# Altium footprint library RF.PcbLib: 3 footprints
Each footprint in its own frame and in the unit in brackets; x right, y up, seen from the top. Pads: shape width x height; smd on the part's side, far side on the other; paste and mask are expansions set on the pad; w line width, h text height; cw(c..) or ccw(c..) is an arc to the next point about the centre after c.
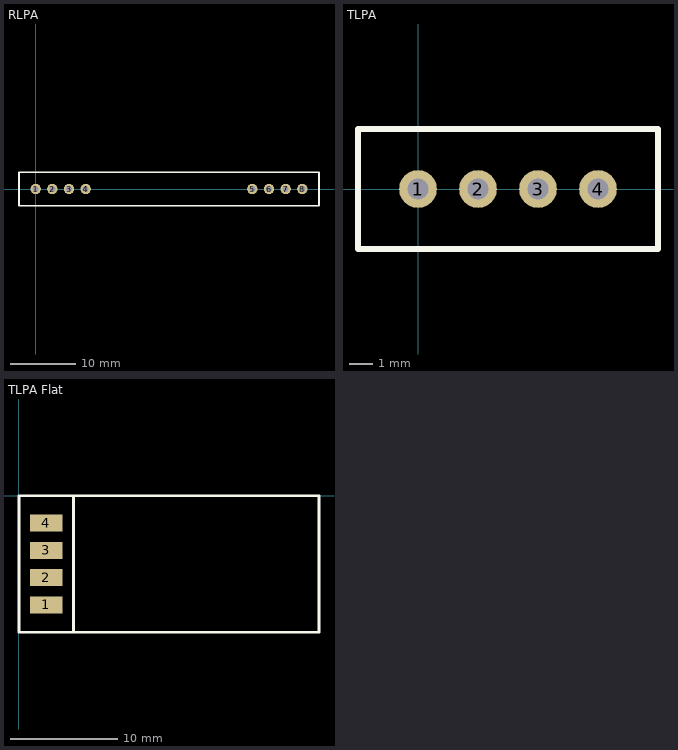
[diagram p0: the footprints below, top view; thin cyan lines are the x and y axes]

## RLPA [mm]
pads (8):
  round 1.6 hole 0.9: 1(0,0) 2(2.54,0) 3(5.08,0) 4(7.62,0) 5(33.02,0) 6(35.56,0) 7(38.1,0) 8(40.64,0)
Top Overlay:
  lines w0.254: -2.54,-2.54 -2.54,2.54 43.18,2.54 43.18,-2.54 -2.54,-2.54

## TLPA [mm]
pads (4):
  round 1.6 hole 0.9: 1(0,0) 2(2.54,0) 3(5.08,0) 4(7.62,0)
Top Overlay:
  lines w0.254: -2.54,-2.54 10.16,-2.54 10.16,2.54 -2.54,2.54 -2.54,-2.54

## TLPA Flat [mm]
pads (4):
  rect 3x1.6 smd: 1(2.54,-10.16) 2(2.54,-7.62) 3(2.54,-5.08) 4(2.54,-2.54)
Top Overlay:
  lines w0.254: 5.08,-12.7 5.08,0 ; 0,-12.7 27.94,-12.7 27.94,0 0,0 0,-12.7